# Altium footprint library Magjack_Connector.PcbLib: 1 footprints
Each footprint in its own frame and in the unit in brackets; x right, y up, seen from the top. Pads: shape width x height; smd on the part's side, far side on the other; paste and mask are expansions set on the pad; w line width, h text height; cw(c..) or ccw(c..) is an arc to the next point about the centre after c.
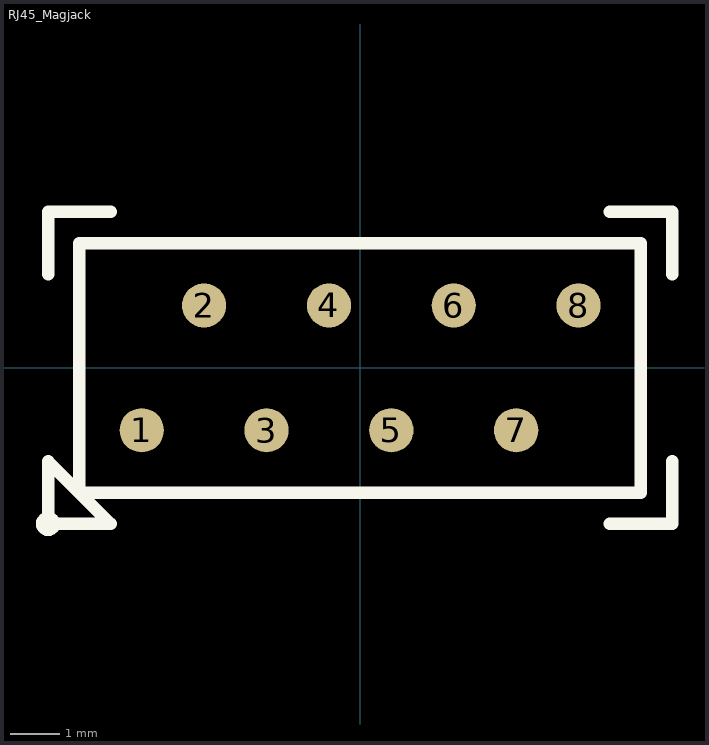
[diagram p0: the footprint, top view; thin cyan lines are the x and y axes]

## RJ45_Magjack [mm]
pads (9):
  round 0.9 smd: 1(-4.445,-1.27) 2(-3.175,1.27) 3(-1.905,-1.27) 4(-0.635,1.27) 5(0.635,-1.27) 6(1.905,1.27) 7(3.175,-1.27) 8(4.445,1.27)
  round 0.5 on Top Overlay: ""(-6.35,-3.175)
Top Overlay:
  lines w0.254: -6.35,1.905 -6.35,3.175 -5.08,3.175 ; 5.08,-3.175 6.35,-3.175 6.35,-1.905 ; 5.08,3.175 6.35,3.175 6.35,1.905 ; -6.35,-3.175 -5.08,-3.175 -6.35,-1.905 -6.35,-3.175 ; -5.715,-2.54 5.715,-2.54 5.715,2.54 -5.715,2.54 -5.715,-2.54